# EAGLE library part STG3856QTR (library dip_switch)
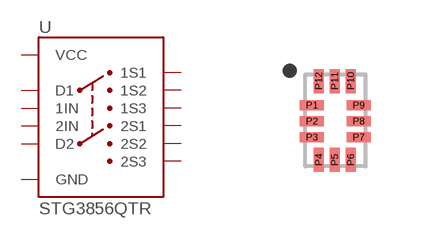
[diagram p0: symbol with the pads of STG3856; footprint STG3856]

Designator prefix U

## STG3856QTR (PROD_ID: IC-17058)  [STG3856]
P1  1S1
P2  1S2
P3  1S3
P4  D1
P5  GND  pwr
P6  D2
P7  2S3
P8  2S2
P9  2S1
P10  2IN
P11  VCC  pwr
P12  1IN

## Footprint STG3856 (pad centres in mm)
QFN-12L Mechanical Specifications: Pad Size: .25mm x .40mm Pin count: 12 Pin pitch: 0.4mm Package Size: 2.2mm x 1.4mm Datasheet referenced for footprint <https://www.st.com/content/ccc/resource/technical/document/datasheet/1e/1d/55/29/cc/cb/43/84/CD00081251.pdf/files/CD00081251.pdf/jcr:content/translations/en.CD00081251.pdf>
smd 0.6 x 0.25: P1 -0.59,0.41; P2 -0.59,0.01; P3 -0.59,-0.39; P7 0.58,-0.39; P8 0.58,0.01; P9 0.58,0.41
smd 0.25 x 0.6: P4 -0.42,-0.96; P5 -0.02,-0.96; P6 0.38,-0.96; P10 0.38,1.01; P11 -0.02,1.01; P12 -0.42,1.01